# EAGLE library part BAS40TW-7-F (library graftel-internal-ic)
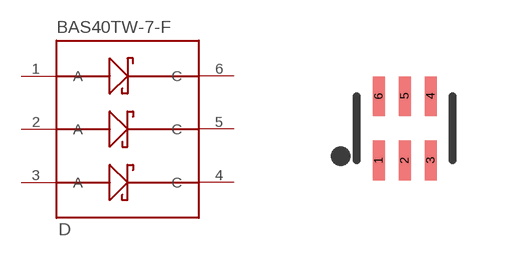
[diagram p25: symbol with the pads of SOT363; footprint SOT363]

Designator prefix D

## BAS40TW-7-F  [SOT363]
1  A
2  A
3  A
4  C
5  C
6  C

## Footprint SOT363 (pad centres in mm)
smd 0.3 x 0.99: 1 -0.65,-0.8; 2 0,-0.8; 3 0.65,-0.8; 4 0.65,0.81; 5 0,0.81; 6 -0.65,0.81